# Altium schematic symbol library 1864354.SchLib: 1 symbol
Pins are listed as number, name and electrical type; pins without a type are passive.

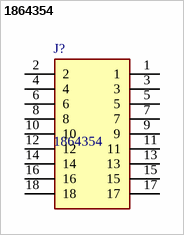
[diagram p0: symbol 1864354]

## 1864354
designator J?
Conn Terminal Block 9 POS 3.5mm Spring Clamp Thru-Hole 13.5A; Manufacturer_Name: Phoenix Contact; Geometry.Height: 10.9mm; Manufacturer_Part_Number: 1864354; Mouser Part Number: 651-1864354; Mouser Price/Stock: https://www.mouser.co.uk/ProductDetail/Phoenix-Contact/1864354?qs=K5ytOU5dogooOTFQbYZG6w%3D%3D; Arrow Part Number: 1864354; Arrow Price/Stock: https://www.arrow.com/en/products/1864354/phoenix-contact; Datasheet Link: https://datasheet.datasheetarchive.com/originals/distributors/DKDS-31/613782.pdf
footprint 1864354
pins: 1, 2, 3, 4, 5, 6, 7, 8, 9, 10, 11, 12, 13, 14, 15, 16, 17, 18